# Altium footprint library zulu_a7.PcbLib: 41 footprints (part 2 of 3)
Each footprint in its own frame and in the unit in brackets; x right, y up, seen from the top. Pads: shape width x height; smd on the part's side, far side on the other; paste and mask are expansions set on the pad; w line width, h text height; cw(c..) or ccw(c..) is an arc to the next point about the centre after c.
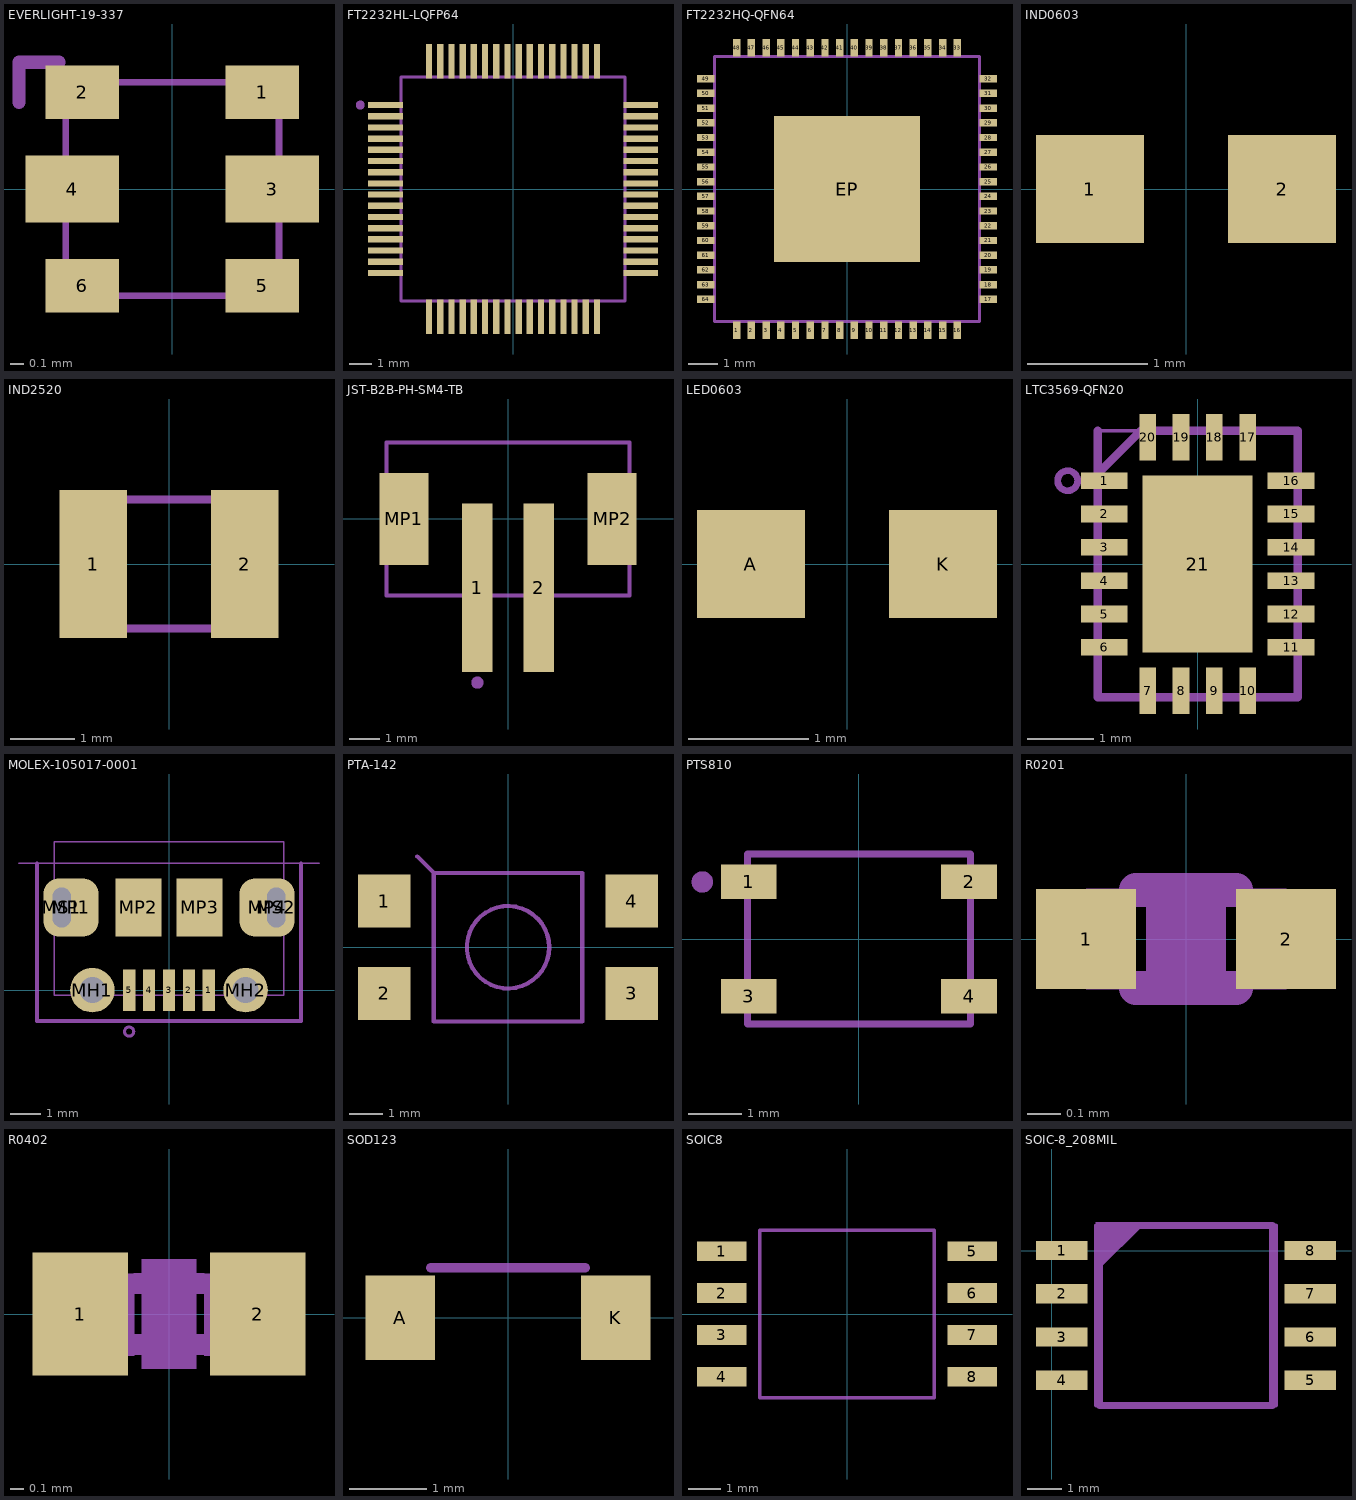
[diagram p1: the footprints below, top view; thin cyan lines are the x and y axes]

## EVERLIGHT-19-337 [mm] "EVERLIGHT-19-337"
pads (6):
  rect 0.55x0.4 smd: 1(0.675,0.725) 2(-0.675,0.725) 5(0.675,-0.725) 6(-0.675,-0.725)
  rect 0.7x0.5 smd: 3(0.75,0) 4(-0.75,0)
Mechanical 3:
  lines w0.05: -0.8,-0.8 0.8,-0.8 0.8,0.8 -0.8,0.8 -0.8,-0.8
Mechanical 7:
  lines w0.1: -1.15,0.65 -1.15,0.95 -0.85,0.95

## FT2232HL-LQFP64 [mm] "FT2232HL-LQFP64"
pads (64):
  rect 1.55x0.28 smd: 1(-5.7,3.75) 2(-5.7,3.25) 3(-5.7,2.75) 4(-5.7,2.25) 5(-5.7,1.75) 6(-5.7,1.25) 7(-5.7,0.75) 8(-5.7,0.25) 9(-5.7,-0.25) 10(-5.7,-0.75) 11(-5.7,-1.25) 12(-5.7,-1.75) 13(-5.7,-2.25) 14(-5.7,-2.75) 15(-5.7,-3.25) 16(-5.7,-3.75) 33(5.7,-3.75) 34(5.7,-3.25) 35(5.7,-2.75) 36(5.7,-2.25) 37(5.7,-1.75) 38(5.7,-1.25) 39(5.7,-0.75) 40(5.7,-0.25) 41(5.7,0.25) 42(5.7,0.75) 43(5.7,1.25) 44(5.7,1.75) 45(5.7,2.25) 46(5.7,2.75) 47(5.7,3.25) 48(5.7,3.75)
  rect 0.28x1.55 smd: 17(-3.75,-5.7) 18(-3.25,-5.7) 19(-2.75,-5.7) 20(-2.25,-5.7) 21(-1.75,-5.7) 22(-1.25,-5.7) 23(-0.75,-5.7) 24(-0.25,-5.7) 25(0.25,-5.7) 26(0.75,-5.7) 27(1.25,-5.7) 28(1.75,-5.7) 29(2.25,-5.7) 30(2.75,-5.7) 31(3.25,-5.7) 32(3.75,-5.7) 49(3.75,5.7) 50(3.25,5.7) 51(2.75,5.7) 52(2.25,5.7) 53(1.75,5.7) 54(1.25,5.7) 55(0.75,5.7) 56(0.25,5.7) 57(-0.25,5.7) 58(-0.75,5.7) 59(-1.25,5.7) 60(-1.75,5.7) 61(-2.25,5.7) 62(-2.75,5.7) 63(-3.25,5.7) 64(-3.75,5.7)
Mechanical 3:
  lines w0.127: -5,-5 5,-5 5,5 -5,5 -5,-5
Mechanical 7:
  circle w0.2: c-6.825,3.75 r0.1
  lines w0.127: -5,-4.104 -5,-5 -4.104,-5 ; -5,4.104 -5,5 -4.104,5 ; 4.104,-5 5,-5 5,-4.104 ; 4.104,5 5,5 5,4.104

## FT2232HQ-QFN64 [mm] "FT2232HQ-QFN64"
pads (65):
  rect 0.25x0.6 smd: 1(-3.75,-4.8) 2(-3.25,-4.8) 3(-2.75,-4.8) 4(-2.25,-4.8) 5(-1.75,-4.8) 6(-1.25,-4.8) 7(-0.75,-4.8) 8(-0.25,-4.8) 9(0.25,-4.8) 10(0.75,-4.8) 11(1.25,-4.8) 12(1.75,-4.8) 13(2.25,-4.8) 14(2.75,-4.8) 15(3.25,-4.8) 16(3.75,-4.8) 33(3.75,4.8) 34(3.25,4.8) 35(2.75,4.8) 36(2.25,4.8) 37(1.75,4.8) 38(1.25,4.8) 39(0.75,4.8) 40(0.25,4.8) 41(-0.25,4.8) 42(-0.75,4.8) 43(-1.25,4.8) 44(-1.75,4.8) 45(-2.25,4.8) 46(-2.75,4.8) 47(-3.25,4.8) 48(-3.75,4.8)
  rect 0.6x0.25 smd: 17(4.8,-3.75) 18(4.8,-3.25) 19(4.8,-2.75) 20(4.8,-2.25) 21(4.8,-1.75) 22(4.8,-1.25) 23(4.8,-0.75) 24(4.8,-0.25) 25(4.8,0.25) 26(4.8,0.75) 27(4.8,1.25) 28(4.8,1.75) 29(4.8,2.25) 30(4.8,2.75) 31(4.8,3.25) 32(4.8,3.75) 49(-4.8,3.75) 50(-4.8,3.25) 51(-4.8,2.75) 52(-4.8,2.25) 53(-4.8,1.75) 54(-4.8,1.25) 55(-4.8,0.75) 56(-4.8,0.25) 57(-4.8,-0.25) 58(-4.8,-0.75) 59(-4.8,-1.25) 60(-4.8,-1.75) 61(-4.8,-2.25) 62(-4.8,-2.75) 63(-4.8,-3.25) 64(-4.8,-3.75)
  rect 4.95x4.95 smd: EP(0,0)
Mechanical 7:
  lines w0.1: -4.5,-4.5 4.5,-4.5 4.5,4.5 -4.5,4.5 -4.5,-4.5

## IND0603 [mil] "IND0603"
pads (2):
  rect 35.43x35.43 smd: 1(-31.5,0) 2(31.5,0)

## IND2520 [mm] "IND2520"
pads (2):
  rect 1.05x2.3 smd: 1(-1.175,0) 2(1.175,0)
Mechanical 4:
  lines w0.05: -1.25,-1 1.25,-1 1.25,1 -1.25,1 -1.25,-1
Mechanical 8:
  lines w0.127: -0.65,-1 0.65,-1 ; -0.65,1 0.65,1

## JST-B2B-PH-SM4-TB [mm] "JST-B2B-PH-SM4-TB"
pads (4):
  rect 1x5.5 smd: 1(-1,-2.25) 2(1,-2.25)
  rect 1.6x3 smd: MP1(-3.4,0) MP2(3.4,0)
Mechanical 3:
  lines w0.127: -3.975,-2.5 3.975,-2.5 3.975,2.5 -3.975,2.5 -3.975,-2.5
Mechanical 7:
  circle w0.2: c-1,-5.35 r0.1
  lines w0.127: -3.975,-1.713 -3.975,-2.5 -1.713,-2.5 ; -3.975,1.713 -3.975,2.5 3.975,2.5 3.975,1.713 ; -0.287,-2.5 0.287,-2.5 ; 1.713,-2.5 3.975,-2.5 3.975,-1.713

## LED0603 [mil] "LED0603"
pads (2):
  rect 35.43x35.43 smd: A(-31.5,0) K(31.5,0)

## LTC3569-QFN20 [mm] "LTC3569-QFN20"
pads (21):
  rect 0.7x0.25 smd: 1(-1.4,1.25) 2(-1.4,0.75) 3(-1.4,0.25) 4(-1.4,-0.25) 5(-1.4,-0.75) 6(-1.4,-1.25) 11(1.4,-1.25) 12(1.4,-0.75) 13(1.4,-0.25) 14(1.4,0.25) 15(1.4,0.75) 16(1.4,1.25)
  rect 0.25x0.7 smd: 7(-0.75,-1.9) 8(-0.25,-1.9) 9(0.25,-1.9) 10(0.75,-1.9) 17(0.75,1.9) 18(0.25,1.9) 19(-0.25,1.9) 20(-0.75,1.9)
  rect 1.65x2.65 smd: 21(0,0)
Mechanical 4:
  lines w0.05: -1.5,-2 1.5,-2 1.5,2 -1.5,2 -1.5,-2
Mechanical 8:
  circle w0.1: c-1.95,1.25 r0.15
  lines w0.127: -1.5,2 -1.5,1.35 ; -1.5,1.35 -0.85,2 1.5,2 1.5,-2 -1.5,-2 -1.5,1.35

## MOLEX-105017-0001 [mm] "MOLEX-105017-0001"
pads (13):
  rect 0.4x1.35 smd: 1(1.3,0) 2(0.65,0) 3(0,0) 4(-0.65,0) 5(-1.3,0)
  round 1.45 hole 0.85: MH1(-2.5,0) MH2(2.5,0)
  rrect56% 1.8x1.9 smd: MP1(-3.2,2.7) MP4(3.2,2.7)
  rect 1.5x1.9 smd: MP2(-1,2.7) MP3(1,2.7)
  oval 1.11x1.81 / inner oval 0.9x1.6 / far side oval 1.11x1.81 hole 0.6 slot 1.3 at 90 deg: MS1(-3.5,2.7) MS2(3.5,2.7)
Route Tool Path:
  lines w0: -3.8,2.35 ccw(c-3.5,2.35) -3.2,2.35 -3.2,3.05 ccw(c-3.5,3.05) -3.8,3.05 -3.8,2.35 ; 3.2,2.35 ccw(c3.5,2.35) 3.8,2.35 3.8,3.05 ccw(c3.5,3.05) 3.2,3.05 3.2,2.35
Mechanical 3:
  lines w0.05: -3.75,-0.159 3.75,-0.159 3.75,4.841 -3.75,4.841 -3.75,-0.159
Mechanical 7:
  circle w0.1: c-1.3,-1.35 r0.15
  lines w0.127: -4.3,4.141 -4.3,-1 4.3,-1 4.3,4.141
Mechanical 19:
  lines w0.05: -4.893,4.141 4.893,4.141

## PTA-142 [mm] "PTA-142"
pads (4):
  rect 1.6x1.6 smd: 1(-3.75,1.4) 2(-3.75,-1.4) 3(3.75,-1.4) 4(3.75,1.4)
Mechanical 3:
  circle w0.127: c0,0 r1.25
Mechanical 7:
  lines w0.127: -2.75,2.75 -2.25,2.25 ; -2.25,2.25 2.25,2.25 2.25,-2.25 -2.25,-2.25 -2.25,2.25

## PTS810 [mm] "PTS810"
pads (4):
  rect 1.05x0.65 smd: 1(-2.075,1.075) 2(2.075,1.075) 3(-2.075,-1.075) 4(2.075,-1.075)
Mechanical 3:
  lines w0.127: -2.1,-1.6 2.1,-1.6 2.1,1.6 -2.1,1.6 -2.1,-1.6
Mechanical 7:
  circle w0.2: c-2.95,1.075 r0.1
  lines w0.127: -2.1,-0.536 -2.1,0.536 ; -1.337,-1.6 1.337,-1.6 ; -1.337,1.6 1.337,1.6 ; 2.1,-0.536 2.1,0.536

## R0201 [mm] "R0201"
pads (2):
  rect 0.3x0.3 smd: 1(-0.3,0) 2(0.3,0)
Mechanical 3:
  region: -0.3,-0.15 -0.3,0.15 -0.15,0.15 -0.15,-0.15
  region: 0.15,-0.15 0.15,0.15 0.3,0.15 0.3,-0.15
  lines w0.102: -0.15,-0.147 0.15,-0.147 ; -0.15,0.147 0.15,0.147
Top Glue Points:
  region: -0.12,-0.15 -0.12,0.15 0.12,0.15 0.12,-0.15

## R0402 [mm] "R0402"
pads (2):
  rect 0.7x0.9 smd: 1(-0.65,0) 2(0.65,0)
Mechanical 4:
  region: -0.554,-0.305 -0.554,0.295 -0.254,0.295 -0.254,-0.305
  region: 0.259,-0.305 0.259,0.295 0.559,0.295 0.559,-0.305
  lines w0.152: -0.245,-0.224 0.245,-0.224 ; -0.245,0.224 0.245,0.224
Bottom Glue Points:
  region: -0.2,-0.4 -0.2,0.4 0.2,0.4 0.2,-0.4

## SOD123 [mm] "SOD123"
pads (2):
  rect 0.9x1.1 smd: A(-1.4,0) K(1.4,0)
Mechanical 8:
  lines w0.127: -1,0.65 1,0.65

## SOIC8 [mm] "SOIC8"
pads (8):
  rect 1.5x0.6 smd: 1(-3.81,1.905) 2(-3.81,0.635) 3(-3.81,-0.635) 4(-3.81,-1.905) 5(3.81,1.905) 6(3.81,0.635) 7(3.81,-0.635) 8(3.81,-1.905)
Mechanical 8:
  lines w0.1: -2.65,-2.55 2.65,-2.55 2.65,2.55 -2.65,2.55 -2.65,-2.55

## SOIC-8_208MIL [mm] "SOIC-8_208MIL"
pads (8):
  rect 1.51x0.56 smd: 1(0.299,0) 2(0.299,-1.27) 3(0.299,-2.54) 4(0.299,-3.81) 5(7.599,-3.81) 6(7.599,-2.54) 7(7.599,-1.27) 8(7.599,0)
Mechanical 4:
  region: -0.001,-0.21 -0.001,0.21 0.649,0.21 0.649,-0.21
  region: -0.001,-1.48 -0.001,-1.06 0.649,-1.06 0.649,-1.48
  region: -0.001,-2.75 -0.001,-2.33 0.649,-2.33 0.649,-2.75
  region: -0.001,-4.02 -0.001,-3.6 0.649,-3.6 0.649,-4.02
  region: 7.249,-4.02 7.249,-3.6 7.899,-3.6 7.899,-4.02
  region: 7.249,-2.75 7.249,-2.33 7.899,-2.33 7.899,-2.75
  region: 7.249,-1.48 7.249,-1.06 7.899,-1.06 7.899,-1.48
  region: 7.249,-0.21 7.249,0.21 7.899,0.21 7.899,-0.21
  lines w0.127: 1.31,-4.545 1.31,0.735 6.59,0.735 6.59,-4.545 1.31,-4.545
Mechanical 8:
  region: 1.305,0.837 1.305,-0.634 2.776,0.837
  lines w0.203: 1.406,-4.545 1.406,0.735 6.493,0.735 6.493,-4.545 1.406,-4.545